# Altium footprint library TPS54JA20RWWR.PCBLIB: 6 footprints
Each footprint in its own frame and in the unit in brackets; x right, y up, seen from the top. Pads: shape width x height; smd on the part's side, far side on the other; paste and mask are expansions set on the pad; w line width, h text height; cw(c..) or ccw(c..) is an arc to the next point about the centre after c.
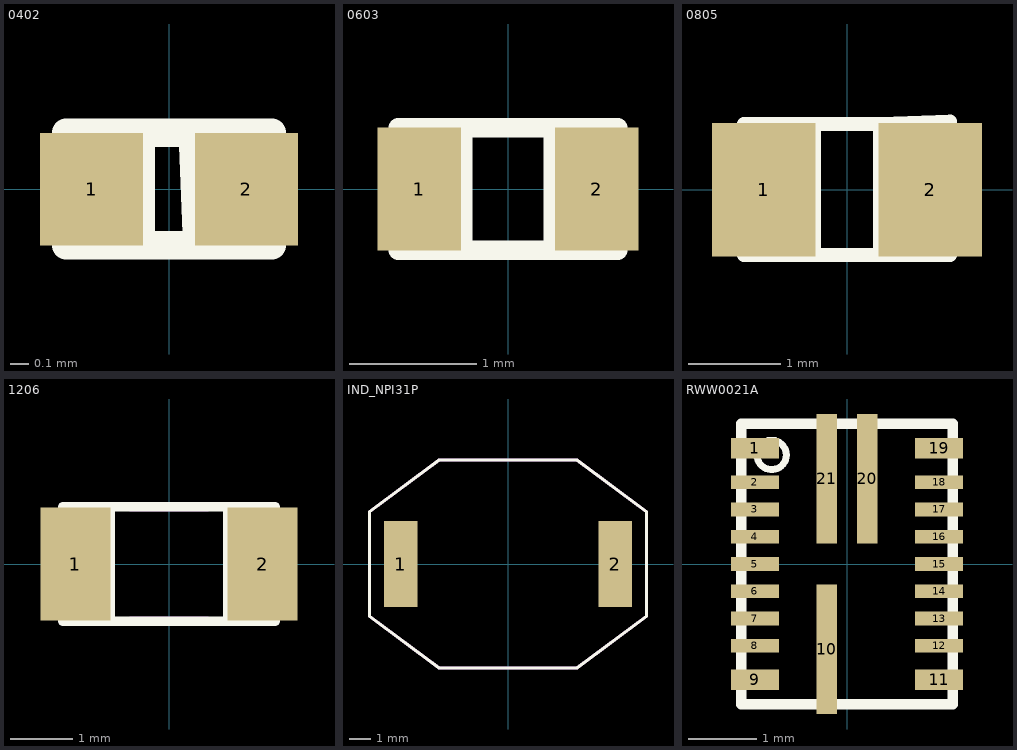
[diagram p0: the footprints below, top view; thin cyan lines are the x and y axes]

## 0402 [mil]
pads (2):
  rect 22x24 smd: 1(-16.5,0) 2(16.5,0)
Top:
  region: 21.5,12 5.5,12 5.5,-12 21.5,-12
  region: -21.5,12 -5.5,12 -5.5,-12 -21.5,-12
Route12:
  region: -31.5,-16 -31.5,16 31.5,16 31.5,-16
  lines w6: -32,-16 32,-16 32,16 -32,16 -32,-16
Top Overlay:
  lines w6: -6,-12 6,-12 ; -6,-12 -22,-12 -22,12 -6,12 ; -6,-12 -6,12 ; -6,12 5,12 ; 5,12 22,12 22,-12 6,-12 ; 5,12 6,-12

## 0603 [mil]
pads (2):
  rect 26x38 smd: 1(-27.5,0) 2(27.5,0)
Top Overlay:
  lines w6: -14,-19 -14,19 ; -14,-19 -34,-19 -34,19 -14,19 ; -14,-19 14,-19 ; -14,19 14,19 ; 14,-19 14,19 ; 14,-19 34,-19 34,19 14,19

## 0805 [mil]
pads (2):
  rect 44x57 smd: 1(-35.5,0) 2(35.5,0)
Top Overlay:
  lines w6: -14,-28 -14,28 ; -14,-28 -44,-28 -44,28 -14,28 ; -14,-28 14,-28 ; -14,28 44,28 ; 14,-28 14,28 44,29 44,28 ; 14,-28 44,-28 44,28

## 1206 [mil]
pads (2):
  rect 44x71 smd: 1(-59,0) 2(59,0)
Top Overlay:
  lines w6: -37,-36 -37,36 ; -37,-36 -67,-36 -67,36 -37,36 ; -37,-36 67,-36 67,-35 ; -37,36 37,36 ; 37,36 37,-36 67,-35 ; 37,36 67,36 67,-35
tPlace:
  lines w6: -24,-36 24,-36 ; -24,36 24,36

## IND_NPI31P [mil]
pads (2):
  rect 63x161 smd: 1(-201,0) 2(201,0)
Top Overlay:
  lines w6: -260,-98 -130,-195 130,-195 260,-98 260,98 130,195 -130,195 -260,98 -260,-98
tPlace:
  lines w6: -260,-98 -130,-195 130,-195 260,-98 260,98 130,195 -130,195 -260,98 -260,-98

## RWW0021A [mm]
pads (21):
  rect 0.7x0.3 smd: 1(-1.35,1.7) 9(-1.35,-1.7) 11(1.35,-1.7) 19(1.35,1.7)
  rect 0.7x0.2 smd: 2(-1.35,1.2) 3(-1.35,0.8) 4(-1.35,0.4) 5(-1.35,0) 6(-1.35,-0.4) 7(-1.35,-0.8) 8(-1.35,-1.2) 12(1.35,-1.2) 13(1.35,-0.8) 14(1.35,-0.4) 15(1.35,0) 16(1.35,0.4) 17(1.35,0.8) 18(1.35,1.2)
  rect 0.3x1.9 smd paste+0: 10(-0.3,-1.25) 20(0.3,1.25) 21(-0.3,1.25)
Top Overlay:
  lines w0.102: -1.321,1.6 ccw(c-1.105,1.6) -0.889,1.6 ccw(c-1.105,1.6) -1.321,1.6
  lines w0.152: -1.549,-2.057 -1.549,2.057 1.549,2.057 1.549,-2.057 -1.549,-2.057
  text ".Designator" at -0.737,1.194 h1.97
Top Paste:
  drawing of 7 lines, arcs and shapes, not listed
Top Solder:
  region: 1,-1.7 1.35,-1.7 1.35,1.2 1,1.2
  region: 0.949,-1.751 1.401,-1.751 1.401,1.251 0.949,1.251
tPlace:
  text "Designator946" at -1.499,2.896 h1.97
3D body "RWW0021A.stp": height 1, standoff 0, extent -1.5,-2 1.5,2